# EAGLE library part MICROSD (library telemetry-board)
Micro-SD / Transflash card holder with SPI pinout For the 3M # 2908-05WB-MG and/or 4UCON #19656 push-push type
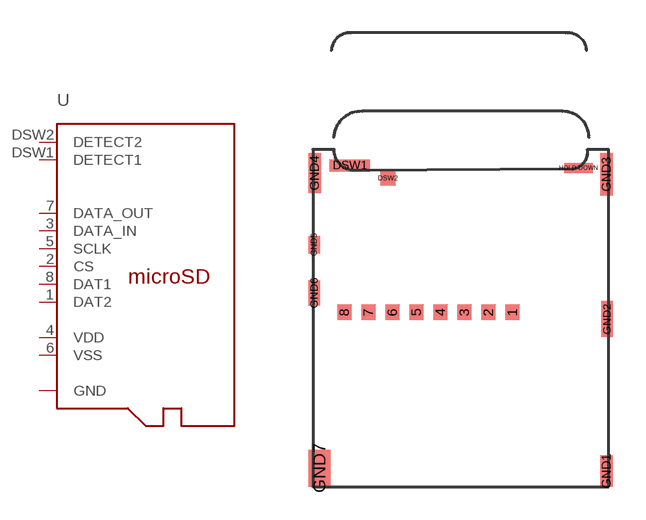
[diagram p1: symbol with the pads of MICROSD; footprint MICROSD]

Designator prefix -

## MICROSD  [MICROSD]
1  DAT2
2  CS  in
3  DATA_IN  in
4  VDD  sup
5  SCLK  in
6  VSS  sup
7  DATA_OUT  out
8  DAT1
DSW1  DETECT1  pas
DSW2  DETECT2  pas
GND1  GND  sup
GND2  GND  sup
GND3  GND  sup
GND4  GND  sup
GND5  GND  sup
GND6  GND  sup
GND7  GND  sup

## Footprint MICROSD (pad centres in mm)
smd 0.64 x 0.7: 1 2.37,8; 2 1.27,8; 3 0.17,8; 4 -0.93,8; 5 -2.03,8; 6 -3.13,8; 7 -4.23,8; 8 -5.33,8
smd 1.85 x 0.55: DSW1 -5.075,14.725
smd 0.7 x 0.7: DSW2 -3.33,14.15
smd 0.57 x 1.45: GND1 6.685,0.725
smd 0.52 x 1.65: GND2 6.71,7.68
smd 0.57 x 1.96: GND3 6.685,14.32
smd 0.57 x 1.85: GND4 -6.685,14.375
smd 0.52 x 0.82: GND5 -6.71,11.09
smd 0.52 x 1.15: GND6 -6.71,8.88
smd 1.01 x 1.7: GND7 -6.465,0.85
smd 1.3 x 0.45: HOLD-DOWN 5.4,14.605